# Altium footprint library PcbLib6050.PcbLib: 1 footprints
Each footprint in its own frame and in the unit in brackets; x right, y up, seen from the top. Pads: shape width x height; smd on the part's side, far side on the other; paste and mask are expansions set on the pad; w line width, h text height; cw(c..) or ccw(c..) is an arc to the next point about the centre after c.
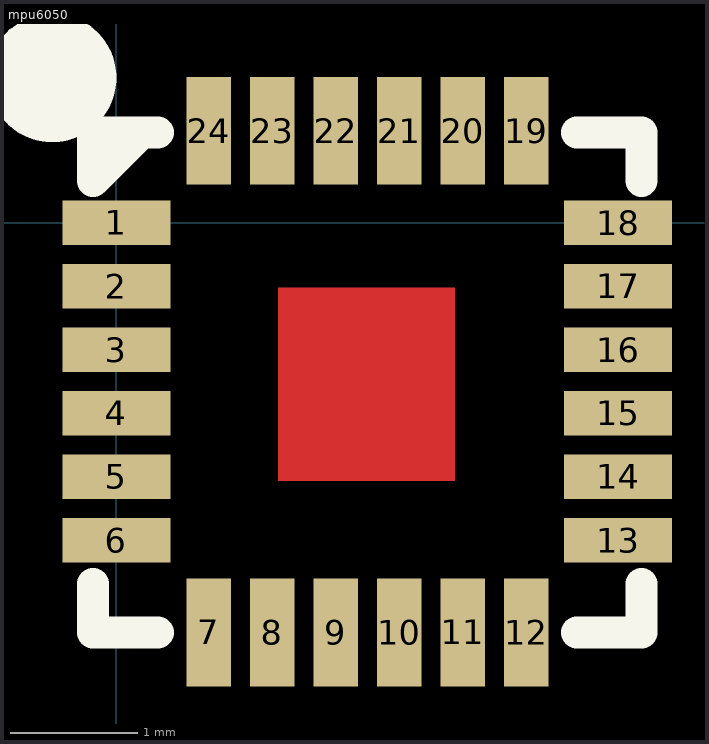
[diagram p0: the footprint, top view; thin cyan lines are the x and y axes]

## mpu6050 [mm]
pads (24):
  rect 0.85x0.35 smd: 1(0,0) 2(0,-0.5) 3(0,-1) 4(0,-1.5) 5(0,-2) 6(0,-2.5) 13(3.95,-2.5) 14(3.95,-2) 15(3.95,-1.5) 16(3.95,-1) 17(3.95,-0.5) 18(3.95,0)
  rect 0.35x0.85 smd: 7(0.725,-3.225) 8(1.225,-3.225) 9(1.725,-3.225) 10(2.225,-3.225) 11(2.725,-3.225) 12(3.225,-3.225) 19(3.225,0.725) 20(2.725,0.725) 21(2.225,0.725) 22(1.725,0.725) 23(1.225,0.725) 24(0.725,0.725)
Top Layer:
  rectangle: 1.27,-2.032 2.667,-0.508
Top Overlay:
  circle w0.762: c-0.508,1.143 r0.127
  lines w0.254: -0.184,-2.844 -0.184,-3.225 0.324,-3.225 ; 3.626,-3.225 4.134,-3.225 4.134,-2.844 ; 3.626,0.712 4.134,0.712 4.134,0.331 ; -0.184,0.331 -0.184,0.712 0.324,0.712 0.197,0.712 -0.184,0.331